# Altium schematic symbol library CBCM IC.SchLib: 1 symbol
Pins are listed as number, name and electrical type; pins without a type are passive.

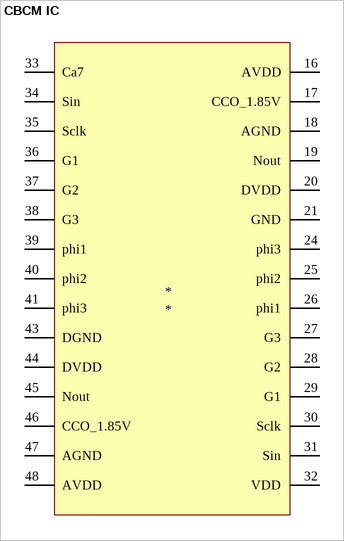
[diagram p0: symbol CBCM IC]

## CBCM IC
designator *
footprint PGA85x11; pin to pad 16>H1 17>H2 18>J1 19>K1 20>J2 21>L1 24>L2 25>L3 26>K4 27>L4 28>J5 29>K5 30>L5 31>K6 32>J6 33>J7 34>L7 35>K7 36>L6 37>L8 38>K8 39>L9 40>L10 41>K9 43>K10 44>J10 45>K11 46>J11 47>H10 48>H11
pins: 16 AVDD (power), 17 CCO_1.85V (power), 18 AGND (power), 19 Nout, 20 DVDD (power), 21 GND (power), 24 phi3, 25 phi2, 26 phi1, 27 G3, 28 G2, 29 G1, 30 Sclk, 31 Sin, 32 VDD (power), 33 Ca7 , 34 Sin, 35 Sclk, 36 G1, 37 G2, 38 G3, 39 phi1, 40 phi2, 41 phi3, 43 DGND, 44 DVDD (power), 45 Nout, 46 CCO_1.85V (power), 47 AGND (power), 48 AVDD (power)